# Altium footprint library capacitor_smd.PcbLib: 120 footprints (part 1 of 8)
Each footprint in its own frame and in the unit in brackets; x right, y up, seen from the top. Pads: shape width x height; smd on the part's side, far side on the other; paste and mask are expansions set on the pad; w line width, h text height; cw(c..) or ccw(c..) is an arc to the next point about the centre after c.
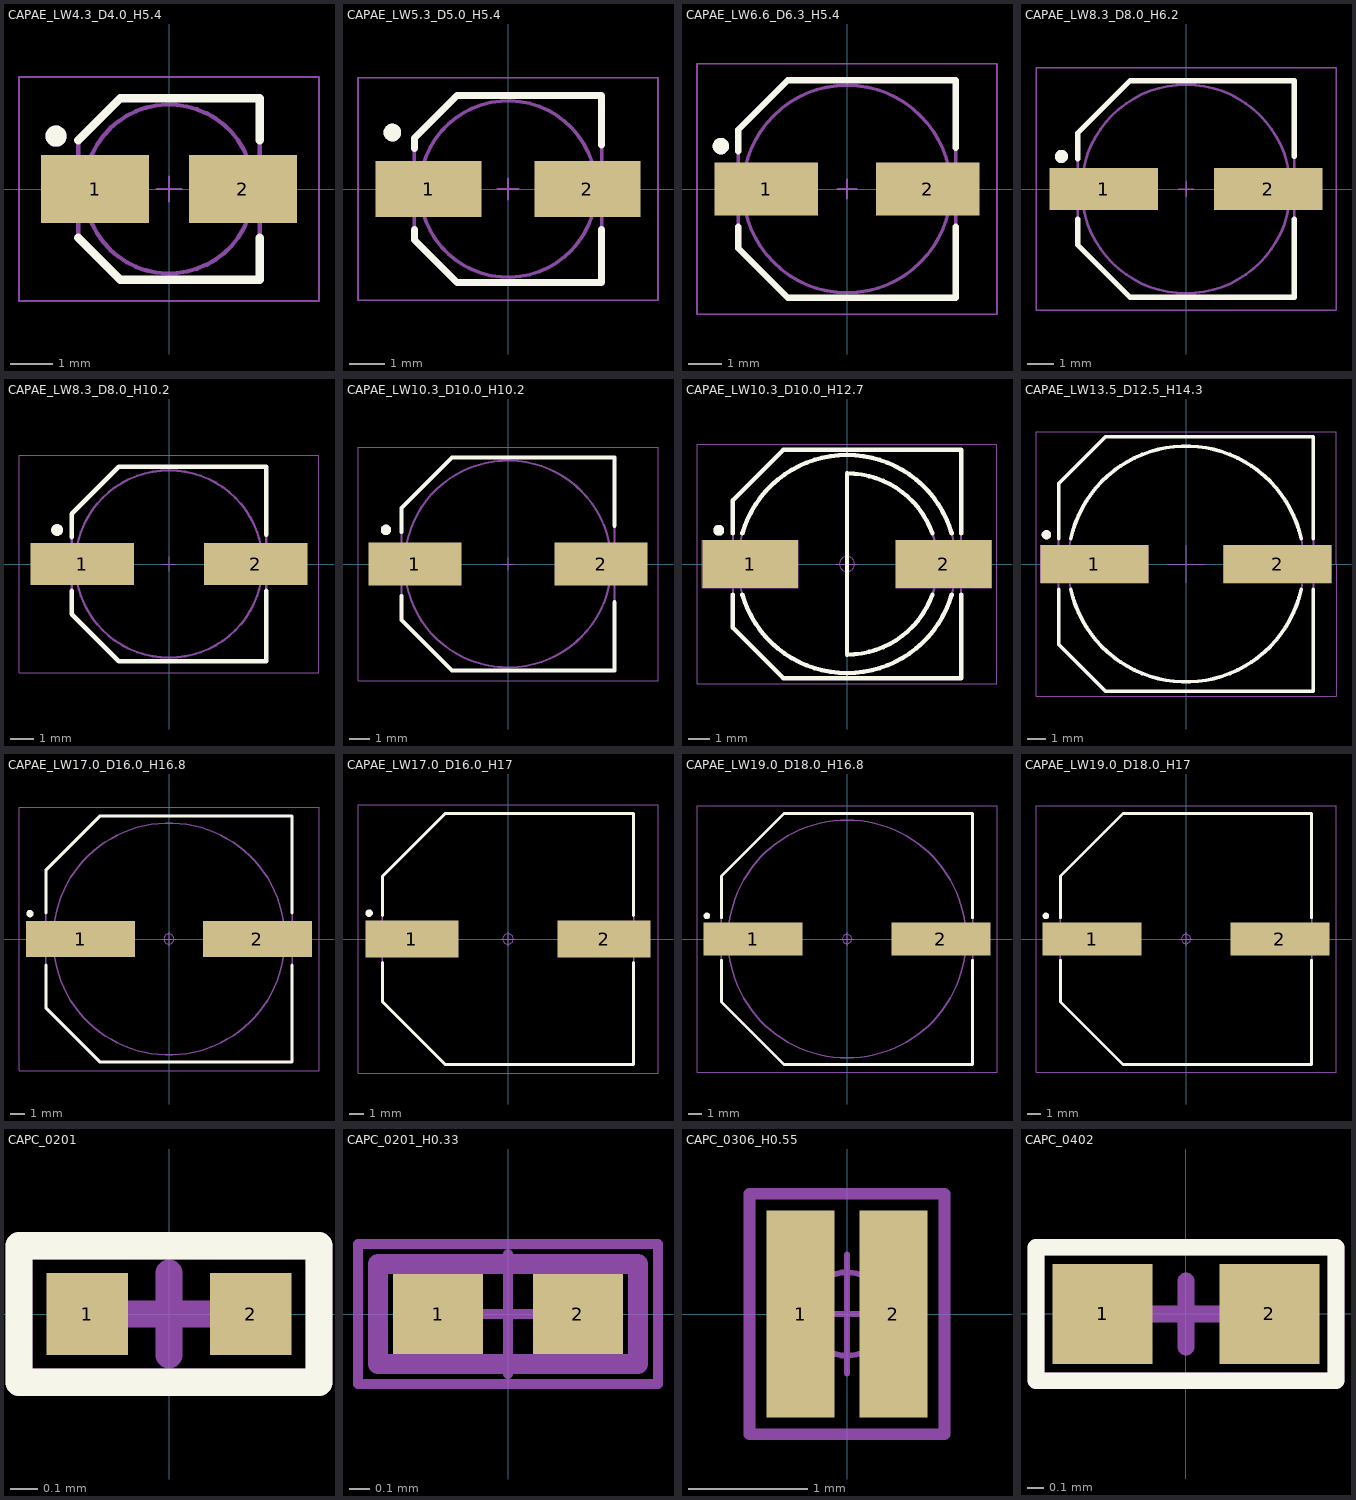
[diagram p0: the footprints below, top view; thin cyan lines are the x and y axes]

## CAPAE_LW4.3_D4.0_H5.4 [mm] "Capacitor, Aluminium Electrolytric, 4.3mm L X 4.3mm W X 5.4mm H, IPC Medium Density"
height 5.4
pads (2):
  rect 2.55x1.6 smd: 1(-1.75,0) 2(1.75,0)
Top Overlay:
  circle w0.25: c-2.675,1.25 r0.125
  lines w0.2: -2.15,-1.15 -1.15,-2.15 2.15,-2.15 2.15,-1.15 ; -2.15,1.15 -1.15,2.15 2.15,2.15 2.15,1.15
Mechanical 1:
  circle w0.25: c-2.675,1.25 r0.125
  circle w0.1: c0,0 r2
  lines w0.1: -2.15,-1.15 -1.15,-2.15 2.15,-2.15 2.15,2.15 -1.15,2.15 -2.15,1.15 -2.15,-1.15
Mechanical 15:
  lines w0.05: -0.3,0 0.3,0 ; 0,-0.3 0,0.3 ; -3.55,-2.65 -3.55,2.65 3.55,2.65 3.55,-2.65 -3.55,-2.65
3D body "CAPAE430X540N.stp": height 5.7, standoff 0, extent -2.75,-2.25 2.75,2.25

## CAPAE_LW5.3_D5.0_H5.4 [mm] "Capacitor, Aluminium Electrolytric, 5.3mm L X 5.3mm W X 5.4mm H, IPC Medium Density"
height 5.4
pads (2):
  rect 3x1.6 smd: 1(-2.25,0) 2(2.25,0)
Top Overlay:
  circle w0.25: c-3.275,1.6 r0.125
  lines w0.2: -2.65,-1.15 -2.65,-1.45 -1.45,-2.65 2.65,-2.65 2.65,-1.15 ; -2.65,1.15 -2.65,1.45 -1.45,2.65 2.65,2.65 2.65,1.25
Mechanical 1:
  circle w0.1: c0,0 r2.5
  circle w0.25: c-3.275,1.6 r0.125
  lines w0.1: -2.65,-1.45 -2.65,1.45 -1.45,2.65 2.65,2.65 2.65,-2.65 -1.45,-2.65 -2.65,-1.45
Mechanical 15:
  lines w0.05: -0.3,0 0.3,0 ; 0,-0.3 0,0.3 ; -4.25,-3.15 4.25,-3.15 4.25,3.15 -4.25,3.15 -4.25,-3.15
3D body "CAPAE530X540N.stp": height 5.7, standoff 0, extent -3.25,-2.75 3.25,2.75

## CAPAE_LW6.6_D6.3_H5.4 [mm] "Capacitor, Aluminium Electrolytric, 6.6mm L X 6.6mm W X 5.4mm H, IPC Medium Density"
height 5.4
pads (2):
  rect 3.15x1.6 smd: 1(-2.45,0) 2(2.45,0)
Top Overlay:
  circle w0.25: c-3.825,1.3 r0.125
  lines w0.2: -3.3,-1.15 -3.3,-1.8 -1.8,-3.3 3.3,-3.3 3.3,-1.15 ; -3.3,1.15 -3.3,1.8 -1.8,3.3 3.3,3.3 3.3,1.25
Mechanical 1:
  circle w0.1: c0,0 r3.15
  circle w0.25: c-3.825,1.3 r0.125
  lines w0.1: -3.3,-1.8 -3.3,1.8 -1.8,3.3 3.3,3.3 3.3,-3.3 -1.8,-3.3 -3.3,-1.8
Mechanical 15:
  lines w0.05: -0.3,0 0.3,0 ; 0,-0.3 0,0.3 ; -4.55,-3.8 4.55,-3.8 4.55,3.8 -4.55,3.8 -4.55,-3.8
3D body "CAPAE660X540N.stp": height 5.7, standoff 0, extent -3.9,-3.4 3.9,3.4

## CAPAE_LW8.3_D8.0_H6.2 [mm] "Capacitor, Aluminium Electrolytric, 8.3mm L X 8.3mm W X 6.2mm H, IPC Medium Density"
height 6.2
pads (2):
  rect 4.15x1.6 smd: 1(-3.15,0) 2(3.15,0)
Top Overlay:
  circle w0.25: c-4.775,1.25 r0.125
  lines w0.2: -4.15,-1.15 -4.15,-2.15 -2.15,-4.15 4.15,-4.15 4.15,-1.15 ; -4.15,1.15 -4.15,2.15 -2.15,4.15 4.15,4.15 4.15,1.25
Mechanical 1:
  circle w0.1: c0,0 r4
  circle w0.25: c-4.774,1.251 r0.125
  lines w0.1: -4.15,-2.15 -4.15,2.15 -2.15,4.15 4.15,4.15 4.15,-4.15 -2.15,-4.15 -4.15,-2.15
Mechanical 15:
  lines w0.05: -0.3,0 0.3,0 ; 0,-0.3 0,0.3 ; -5.75,-4.65 5.75,-4.65 5.75,4.65 -5.75,4.65 -5.75,-4.65
3D body "CAPAE830X620N.stp": height 6.2, standoff 0, extent -4.75,-4.25 4.75,4.25

## CAPAE_LW8.3_D8.0_H10.2 [mm] "Capacitor, Aluminium Electrolytric, 8.3mm L X 8.3mm W X 10.2mm H, IPC Medium Density"
height 10.2
pads (2):
  rect 4.4x1.8 smd: 1(-3.7,0) 2(3.7,0)
Top Overlay:
  circle w0.25: c-4.775,1.45 r0.125
  lines w0.2: -4.15,-1.15 -4.15,-2.15 -2.15,-4.15 4.15,-4.15 4.15,-1.15 ; -4.15,1.15 -4.15,2.15 -2.15,4.15 4.15,4.15 4.15,1.25
Mechanical 1:
  circle w0.25: c-4.775,1.45 r0.125
  circle w0.1: c0,0 r4
  lines w0.1: -4.15,-2.15 -2.15,-4.15 4.15,-4.15 4.15,4.15 -2.15,4.15 -4.15,2.15 -4.15,-2.15
Mechanical 15:
  lines w0.05: -0.3,0 0.3,0 ; 0,-0.3 0,0.3 ; -6.4,-4.65 -6.4,4.65 6.4,4.65 6.4,-4.65 -6.4,-4.65
3D body "CAPAE830X1020N.stp": height 10.2, standoff 0, extent -4.75,-4.25 5.25,4.25

## CAPAE_LW10.3_D10.0_H10.2 [mm] "Capacitor, Aluminium Electrolytric, 10.3mm L X 10.3mm W X 10.2mm H, IPC Medium Density"
height 10.2
pads (2):
  rect 4.5x2.1 smd: 1(-4.5,0) 2(4.5,0)
Top Overlay:
  circle w0.25: c-5.9,1.65 r0.125
  lines w0.2: -5.15,-1.55 -5.15,-2.35 -5.15,-2.7 -2.7,-5.15 5.15,-5.15 5.15,-1.85 ; -5.15,1.55 -5.15,2.7 -2.7,5.15 5.15,5.15 5.15,1.85
Mechanical 1:
  circle w0.25: c-5.899,1.651 r0.125
  circle w0.1: c0,0 r5
  lines w0.1: -5.15,-2.7 -5.15,2.7 -2.7,5.15 5.15,5.15 5.15,-5.15 -2.7,-5.15 -5.15,-2.7
Mechanical 15:
  lines w0.05: -0.3,0 0.3,0 ; 0,-0.3 0,0.3 ; -7.25,-5.65 7.25,-5.65 7.25,5.65 -7.25,5.65 -7.25,-5.65
3D body "CAPAE1030X1020N.stp": height 10.2, standoff 0, extent -6,-5.25 6,5.25

## CAPAE_LW10.3_D10.0_H12.7 [mm] "Capacitor, Aluminium Electrolytric, 10.3mm L X 10.3mm W X 12.7mm H, IPC Medium Density"
height 12.7
pads (2):
  rect 4.4x2.2 smd: 1(-4.45,0) 2(4.45,0)
Top Overlay:
  circle w0.25: c-5.9,1.55 r0.125
  lines w0.2: -5.25,-1.4 -5.25,-2.935 -2.935,-5.25 5.25,-5.25 5.25,-1.4 ; -5.25,1.4 -5.25,2.935 -2.935,5.25 5.25,5.25 5.25,1.4 ; -4.819,-1.4 ccw(c0,0) 4.819,-1.4 ; -4.819,1.4 cw(c0,0) 4.819,1.4 ; 3.93,-1.4 cw(c0.003,0) 0,-4.169 0,4.169 cw(c0.003,0) 3.93,1.4
Mechanical 1:
  circle w0.25: c-5.899,1.551 r0.125
  circle w0.1: c0,0 r5.018
  lines w0.1: -5.25,-0.55 -5.6,-0.55 -5.6,0.55 -5.25,0.55 ; 5.25,-0.55 5.6,-0.55 5.6,0.55 5.25,0.55 ; -5.25,-2.935 -5.25,2.935 -2.935,5.25 5.25,5.25 5.25,-5.25 -2.935,-5.25 -5.25,-2.935 ; 0,-4.169 ccw(c0.003,0) 0,4.169 0,-4.169
Mechanical 8:
  lines w0.05: -0.5,0 0,0 ; 0,-0.5 0,0 ; 0,0.5 0,0 ; 0.5,0 0,0 ; -6.65,-1.1 -4.45,0 -6.65,1.1 ; -6.65,-1.1 -2.25,-1.1 -2.25,1.1 -6.65,1.1 ; -6.65,-1.1 -6.65,1.1 ; 6.65,-1.1 4.45,0 6.65,1.1 ; 6.65,-1.1 2.25,-1.1 2.25,1.1 6.65,1.1 ; 6.65,-1.1 6.65,1.1
Mechanical 15:
  circle w0.05: c0,0 r0.35
  lines w0.05: -0.5,0 0.5,0 ; 0,-0.5 0,0.5 ; -6.9,-5.5 6.9,-5.5 6.9,5.5 -6.9,5.5 -6.9,-5.5
3D body "CAPAE1030X1270N_AV.stp": height 12.7, standoff 0, extent -5.6,-5.25 5.6,5.25

## CAPAE_LW13.5_D12.5_H14.3 [mm] "Capacitor, Aluminium Electrolytric, 13.5mm L X 13.5mm W X 14.3mm H, IPC Medium Density"
height 14.3
pads (2):
  rect 5.7x2 smd: 1(-4.85,0) 2(4.85,0)
Top Overlay:
  circle w0.25: c-7.4,1.55 r0.125
  lines w0.2: -6.75,-1.35 -6.75,-4.25 -4.25,-6.75 6.75,-6.75 6.75,-1.35 ; -6.75,1.35 -6.75,4.25 -4.25,6.75 6.75,6.75 6.75,1.35 ; -6.102,-1.35 ccw(c0,0) 6.102,-1.35 ; -6.102,1.35 cw(c0,0) 6.102,1.35
Mechanical 1:
  circle w0.1: c0,0 r6.25
  circle w0.25: c-7.399,1.551 r0.125
  lines w0.1: -6.75,-4.25 -4.25,-6.75 6.75,-6.75 6.75,6.75 -4.25,6.75 -6.75,4.25 -6.75,-4.25
Mechanical 8:
  lines w0.05: -7.7,-1 -2,-1 -2,1 -7.7,1 ; -7.7,-1 -7.7,1 ; -7.7,-1 -4.85,0 -7.7,1 ; 7.7,-1 7.7,1 ; 7.7,-1 2,-1 2,1 7.7,1 ; 7.7,-1 4.85,0 7.7,1
Mechanical 15:
  lines w0.05: -1,0 0,0 ; 0,-1 0,0 ; 0,1 0,0 ; 1,0 0,0 ; -7.95,-7 7.95,-7 7.945,7 -7.95,7 -7.95,-7
3D body "CAPAE1350X1430N.stp": height 14.3, standoff 0, extent -7.3,-6.75 7.3,6.75

## CAPAE_LW17.0_D16.0_H16.8 [mm] "Capacitor,Aluminum Electrolytic; 17.00mm L X 17.00mm W X 16.80mm H , IPC Medium Density"
height 16.8
pads (2):
  rect 7.5x2.5 smd: 1(-6.1,0) 2(6.1,0)
Top Overlay:
  circle w0.25: c-9.6,1.75 r0.125
  lines w0.2: -8.5,-1.8 -8.5,-4.75 -4.75,-8.5 8.5,-8.5 8.5,-1.8 ; -8.5,1.8 -8.5,4.75 -4.75,8.5 8.5,8.5 8.5,1.8
Mechanical 1:
  circle w0.1: c0,0 r8
  lines w0.1: -8.5,-4.75 -8.5,4.75 -4.75,8.5 8.5,8.5 8.5,-8.5 -4.75,-8.5 -8.5,-4.75
Mechanical 15:
  circle w0.05: c0,0 r0.35
  lines w0.05: -0.5,0 0.5,0 ; 0,-0.5 0,0.5 ; -10.35,-9.1 -10.35,9.1 10.35,9.1 10.35,-9.1 -10.35,-9.1
3D body "CAPAE1700X1680N.stp": height 16.8, standoff 0, extent -9.3,-8.6 9.3,8.6

## CAPAE_LW17.0_D16.0_H17 [mm] "Capacitor,Aluminum Electrolytic; 17.00mm L X 17.00mm W X 17.00mm H , IPC Medium Density"
height 17
pads (2):
  rect 6.3x2.5 smd: 1(-6.5,0) 2(6.5,0)
Top Overlay:
  circle w0.25: c-9.4,1.75 r0.125
  lines w0.2: -8.5,-1.6 -8.5,-4.25 -4.25,-8.5 8.5,-8.5 8.5,-1.6 ; -8.5,1.6 -8.5,4.25 -4.25,8.5 8.5,8.5 8.5,1.6
Mechanical 1:
  lines w0.1: -8.5,-4.25 -8.5,4.25 -4.25,8.5 8.5,8.5 8.5,-8.5 -4.25,-8.5 -8.5,-4.25
Mechanical 15:
  circle w0.05: c0,0 r0.35
  lines w0.05: -0.5,0 0.5,0 ; 0,-0.5 0,0.5 ; -10.15,-9.1 -10.15,9.1 10.15,9.1 10.15,-9.1 -10.15,-9.1
3D body "CAPAE1700X1700N.stp": height 16.5, standoff 0, extent -9.2,-8.5 9.2,8.5

## CAPAE_LW19.0_D18.0_H16.8 [mm] "Capacitor,Aluminum Electrolytic; 19.00mm L X 19.00mm W X 16.80mm H , IPC Medium Density"
height 16.8
pads (2):
  rect 7.5x2.5 smd: 1(-7.1,0) 2(7.1,0)
Top Overlay:
  circle w0.25: c-10.6,1.75 r0.125
  lines w0.2: -9.5,-1.6 -9.5,-4.75 -4.75,-9.5 9.5,-9.5 9.5,-1.6 ; -9.5,1.6 -9.5,4.75 -4.75,9.5 9.5,9.5 9.5,1.6
Mechanical 1:
  circle w0.1: c0,0 r9
  lines w0.1: -9.5,-4.75 -4.75,-9.5 9.5,-9.5 9.5,9.5 -4.75,9.5 -9.5,4.75 -9.5,-4.75
Mechanical 15:
  circle w0.05: c0,0 r0.35
  lines w0.05: -0.5,0 0.5,0 ; 0,-0.5 0,0.5 ; -11.35,-10.1 11.35,-10.1 11.35,10.1 -11.35,10.1 -11.35,-10.1
3D body "CAPAE1900X1680N.stp": height 16.8, standoff 0, extent -10.5,-9.6 10.5,9.6

## CAPAE_LW19.0_D18.0_H17 [mm] "Capacitor,Aluminum Electrolytic; 19.00mm L X 19.00mm W X 17.00mm H , IPC Medium Density"
height 17
pads (2):
  rect 7.5x2.5 smd: 1(-7.1,0) 2(7.1,0)
Top Overlay:
  circle w0.25: c-10.6,1.75 r0.125
  lines w0.2: -9.5,-1.6 -9.5,-4.75 -4.75,-9.5 9.5,-9.5 9.5,-1.6 ; -9.5,1.6 -9.5,4.75 -4.75,9.5 9.5,9.5 9.5,1.6
Mechanical 1:
  lines w0.1: -9.5,-4.75 -4.75,-9.5 9.5,-9.5 9.5,9.5 -4.75,9.5 -9.5,4.75 -9.5,-4.75
Mechanical 15:
  circle w0.05: c0,0 r0.35
  lines w0.05: -0.5,0 0.5,0 ; 0,-0.5 0,0.5 ; -11.35,-10.1 11.35,-10.1 11.35,10.1 -11.35,10.1 -11.35,-10.1
3D body "CAPAE1900X1700N.stp": height 16.5, standoff 0, extent -10.2,-9.5 10.2,9.5

## CAPC_0201 [mm]
height 0.23
pads (2):
  rect 0.3x0.3 smd mask+0.05: 1(-0.3,0) 2(0.3,0)
Top Overlay:
  lines w0.1: -0.55,-0.25 0.55,-0.25 0.55,0.25 -0.55,0.25 -0.55,-0.25
Mechanical 1:
  lines w0.1: -0.55,-0.25 0.55,-0.25 0.55,0.25 -0.55,0.25 -0.55,-0.25
Mechanical 15:
  lines w0.1: -0.15,0 0.15,0 ; 0,-0.15 0,0.15 ; -0.55,-0.25 -0.55,0.25 0.55,0.25 0.55,-0.25 -0.55,-0.25
3D body "User Library-0201(0603M) Cap.STEP": height 0.31, standoff 0, extent -0.305,-0.152 0.305,0.152

## CAPC_0201_H0.33 [mm] "Chip Capacitor, Body 0.6x0.30mm, IPC Medium Density"
height 0.33
pads (2):
  rect 0.45x0.4 smd: 1(-0.35,0) 2(0.35,0)
Mechanical 1:
  lines w0.1: -0.65,-0.25 -0.65,0.25 0.65,0.25 0.65,-0.25 -0.65,-0.25
Mechanical 15:
  lines w0.05: -0.3,0 0.3,0 ; 0,-0.3 0,0.3 ; -0.75,-0.35 -0.75,0.35 0.75,0.35 0.75,-0.35 -0.75,-0.35
3D body "CAPC0603X33N.stp": height 0.33, standoff 0, extent -0.315,-0.165 0.315,0.165

## CAPC_0306_H0.55 [mm] "Capacitor, Non-Polarized, Chip; 0.80mm L X 1.60mm W X 0.55mm H, IPC Medium Density"
height 0.55
pads (2):
  rect 0.57x1.74 smd: 1(-0.39,0) 2(0.39,0)
Mechanical 1:
  lines w0.1: -0.82,-1.01 -0.82,1.01 0.82,1.01 0.82,-1.01 -0.82,-1.01
Mechanical 15:
  circle w0.05: c0,0 r0.35
  lines w0.05: -0.5,0 0.5,0 ; 0,-0.5 0,0.5 ; -0.83,-1.02 -0.83,1.02 0.83,1.02 0.83,-1.02 -0.83,-1.02
3D body "CAPC0816X55N.stp": height 0.55, standoff 0, extent -0.4,-0.8 0.4,0.8

## CAPC_0402 [mm]
height 0.35
pads (2):
  rect 0.6x0.6 smd mask+0.05: 1(-0.5,0) 2(0.5,0)
Top Overlay:
  lines w0.1: -0.9,-0.4 0.9,-0.4 0.9,0.4 -0.9,0.4 -0.9,-0.4
Mechanical 1:
  lines w0.1: -0.9,-0.4 -0.9,0.4 0.9,0.4 0.9,-0.4 -0.9,-0.4
Mechanical 15:
  lines w0.1: -0.2,0 0.2,0 ; 0,-0.2 0,0.2 ; -0.9,-0.4 -0.9,0.4 0.9,0.4 0.9,-0.4 -0.9,-0.4
3D body "User Library-0402(1005M) Cap.step": height 0.51, standoff 0, extent -0.508,-0.254 0.508,0.254